# Altium schematic symbol library n-mosfet_2.Schlib: 1 symbol
Pins are listed as number, name and electrical type; pins without a type are passive.

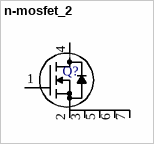
[diagram p0: symbol n-mosfet_2]

## n-mosfet_2
designator Q?  (value not drawn)
N-Channel MOSFET w/ Body Diode 7 Terminal
pins: 1 G, 2 S, 3 S, 4 D, 5 S, 6 S, 7 S